# Altium footprint library Supernova Sensors.PcbLib: 18 footprints (part 1 of 2)
Each footprint in its own frame and in the unit in brackets; x right, y up, seen from the top. Pads: shape width x height; smd on the part's side, far side on the other; paste and mask are expansions set on the pad; w line width, h text height; cw(c..) or ccw(c..) is an arc to the next point about the centre after c.
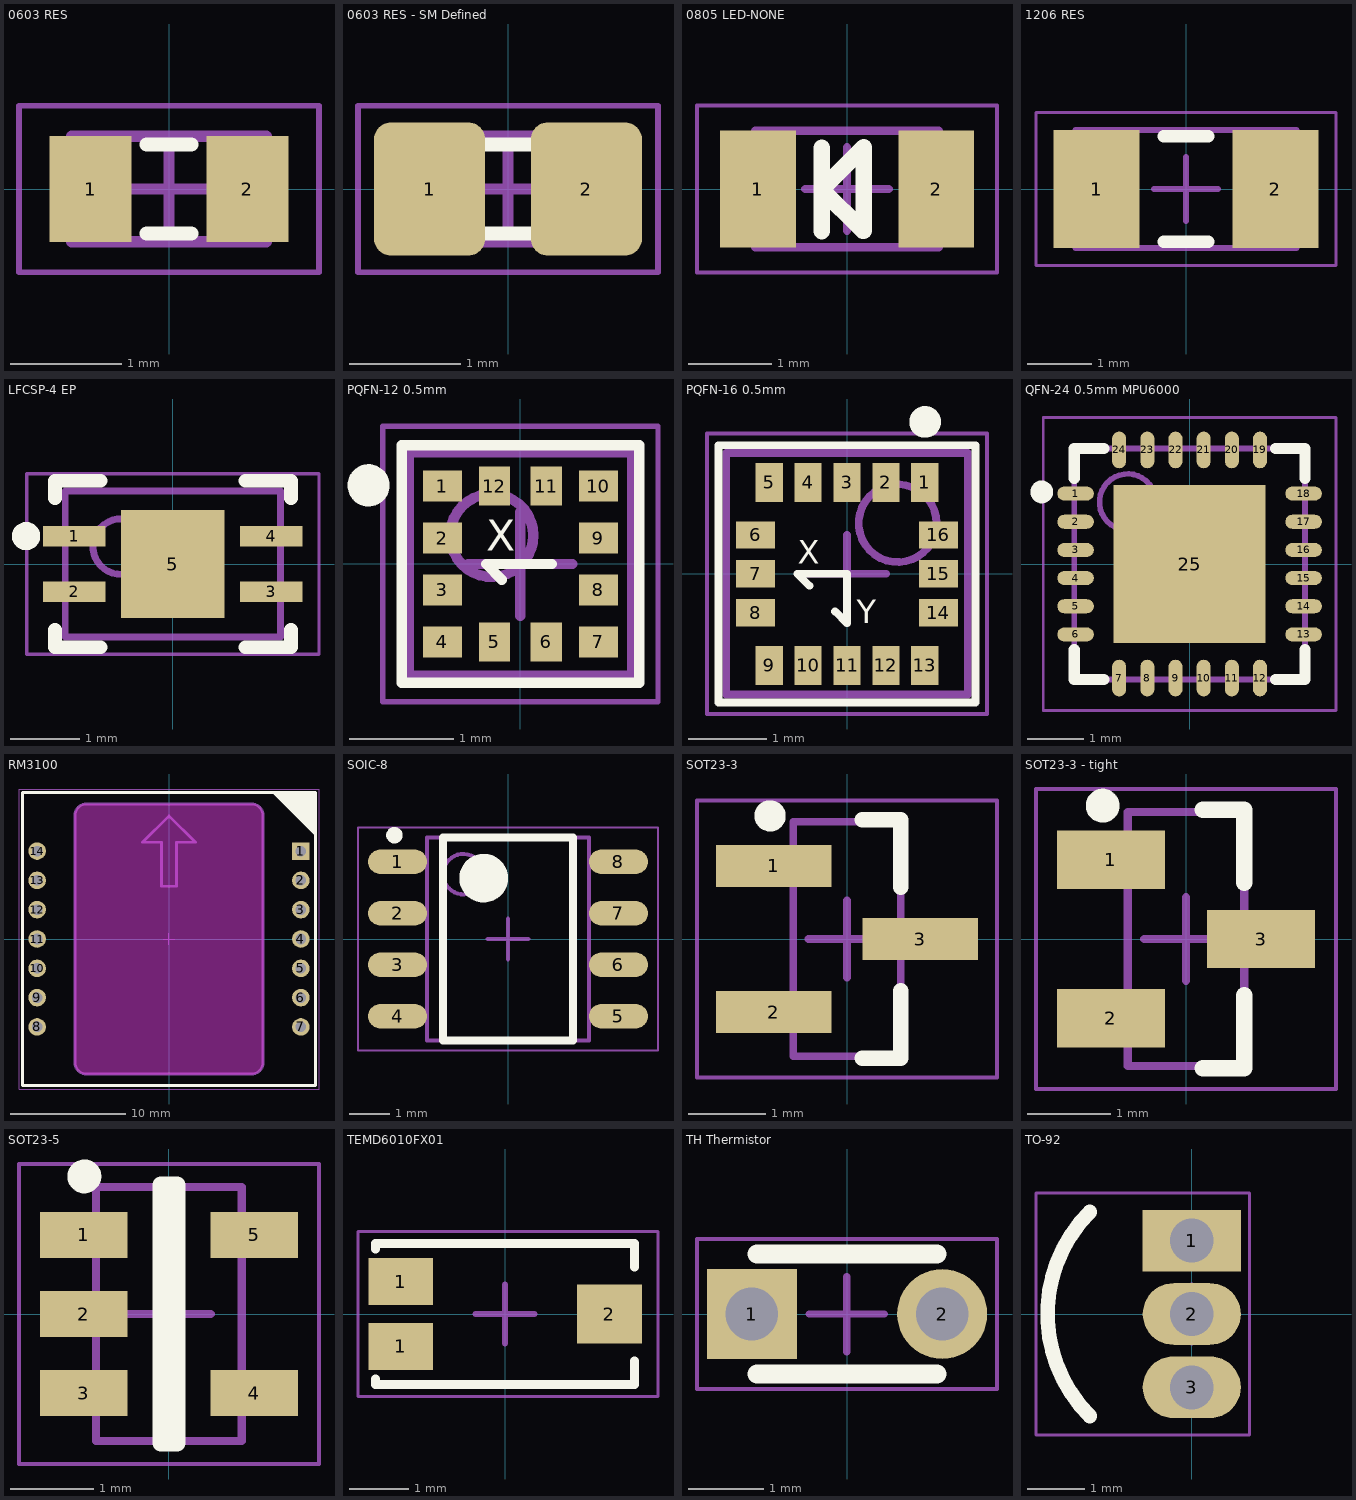
[diagram p0: the footprints below, top view; thin cyan lines are the x and y axes]

## 0603 RES [mm] "Chip Resistor, 2-Leads, Body 1.60x0.85mm, IPC Medium Density"
height 0.55
pads (2):
  rect 0.739x0.95 smd mask+0.051: 1(-0.705,0) 2(0.705,0)
Top Overlay:
  lines w0.127: -0.2,-0.4 0.2,-0.4 ; -0.2,0.4 0.2,0.4
Top 3D Body:
  lines w0.1: -0.875,-0.475 0.875,-0.475 0.875,0.475 -0.875,0.475 -0.875,-0.475
Top Courtyard:
  lines w0.05: -1.35,-0.75 1.35,-0.75 1.35,0.75 -1.35,0.75 -1.35,-0.75
  lines w0.1: -0.475,0 0.475,0 ; 0,-0.475 0,0.475
3D body: height 0.55, standoff 0, extent 0.575,-0.475 0.875,0.475
3D body: height 0.55, standoff 0, extent -0.875,-0.475 -0.575,0.475
3D body: height 0.55, standoff 0, extent -0.575,-0.475 0.575,0.475

## 0603 RES - SM Defined [mm] "Chip Resistor, 2-Leads, Body 1.60x0.85mm, IPC Medium Density"
height 0.55
pads (2):
  rrect30% 1x1.2 smd paste-0.125 mask-0.125: 1(-0.705,0) 2(0.705,0)
Top Overlay:
  lines w0.127: -0.2,-0.4 0.2,-0.4 ; -0.2,0.4 0.2,0.4
Top 3D Body:
  lines w0.1: -0.875,-0.475 -0.875,0.475 0.875,0.475 0.875,-0.475 -0.875,-0.475
Top Courtyard:
  lines w0.05: -1.35,-0.75 -1.35,0.75 1.35,0.75 1.35,-0.75 -1.35,-0.75
  lines w0.1: -0.475,0 0.475,0 ; 0,-0.475 0,0.475
3D body: height 0.55, standoff 0, extent -0.875,-0.475 -0.575,0.475
3D body: height 0.55, standoff 0, extent 0.575,-0.475 0.875,0.475
3D body: height 0.55, standoff 0, extent -0.575,-0.475 0.575,0.475

## 0805 LED-NONE [mm] "Chip LED, 2-Leads, Body 2.05x1.25mm, IPC Medium Density"
height 0.8
pads (2):
  rect 0.91x1.41 smd: 1(-1.07,0) 2(1.07,0)
Top Overlay:
  lines w0.2: -0.304,-0.504 -0.304,0.496 ; 0.192,-0.5 -0.304,-0.004 0.2,0.5 0.2,-0.5
Top 3D Body:
  lines w0.1: -1.1,-0.7 -1.1,0.7 1.1,0.7 1.1,-0.7 -1.1,-0.7
Top Courtyard:
  lines w0.05: -1.8,-1 -1.8,1 1.8,1 1.8,-1 -1.8,-1
  lines w0.1: -0.5,0 0.5,0 ; 0,-0.5 0,0.5
3D body: height 0.3, standoff 0, extent -0.75,-0.7 0.75,0.7
3D body: height 0.8, standoff 0.3, extent -0.75,-0.7 0.75,0.7
3D body: height 0.3, standoff 0, extent -1.1,-0.7 -0.75,0.7
3D body: height 0.3, standoff 0, extent 0.75,-0.7 1.1,0.7

## 1206 RES [mm] "Chip Resistor, 2-Leads, Body 3.20x1.60mm, IPC Medium Density"
height 0.9
pads (2):
  rect 1.35x1.85 smd: 1(-1.4,0) 2(1.4,0)
Top Overlay:
  lines w0.2: -0.35,-0.825 0.35,-0.825 ; -0.35,0.825 0.35,0.825
Top 3D Body:
  lines w0.1: -1.725,-0.925 -1.725,0.925 1.725,0.925 1.725,-0.925 -1.725,-0.925
Top Courtyard:
  lines w0.05: -2.35,-1.2 -2.35,1.2 2.35,1.2 2.35,-1.2 -2.35,-1.2
  lines w0.1: -0.5,0 0.5,0 ; 0,-0.5 0,0.5
3D body: height 0.9, standoff 0, extent -1.225,-0.925 1.225,0.925
3D body: height 0.9, standoff 0, extent -1.725,-0.925 -1.225,0.925
3D body: height 0.9, standoff 0, extent 1.225,-0.925 1.725,0.925

## LFCSP-4 EP [mm] "SON, 4-Leads, Body 2.00x3.00mm, Pitch 0.80mm, Thermal Pad 1.55x1.49mm, IPC Medium Density"
height 0.8
pads (5):
  rect 0.9x0.3 smd mask+0.025: 1(-1.42,0.4) 2(-1.42,-0.4) 3(1.42,-0.4) 4(1.42,0.4)
  rect 1.49x1.55 smd mask+0.025: 5(0,0)
Top Overlay:
  circle w0.203: c-2.115,0.401 r0.102
  lines w0.2: -1.7,-0.95 -1.7,-1.2 -1.045,-1.2 ; -1.7,0.95 -1.7,1.2 -1.045,1.2 ; 1.045,-1.2 1.7,-1.2 1.7,-0.95 ; 1.045,1.2 1.7,1.2 1.7,0.95
Top 3D Body:
  circle w0.1: c-0.75,0.25 r0.4
  lines w0.1: -1.55,-1.05 -1.55,1.05 1.55,1.05 1.55,-1.05 -1.55,-1.05
Top Courtyard:
  lines w0.05: -2.105,-1.3 -2.105,1.3 2.105,1.3 2.105,-1.3 -2.105,-1.3
  lines w0.1: -0.5,0 0.5,0 ; 0,-0.5 0,0.5
3D body: height 0.8, standoff 0, extent -1.55,-1.05 1.55,1.05

## PQFN-12 0.5mm [mm] "PQFN, 12-Leads, Body 2.00x2.00mm, Pitch 0.50mm, IPC Medium Density"
height 1
pads (12):
  rect 0.375x0.3 smd mask+0.025: 1(-0.75,0.75) 2(-0.75,0.25) 3(-0.75,-0.25) 4(-0.75,-0.75) 7(0.75,-0.75) 8(0.75,-0.25) 9(0.75,0.25) 10(0.75,0.75)
  rect 0.3x0.375 smd mask+0.025: 5(-0.25,-0.75) 6(0.25,-0.75) 11(0.25,0.75) 12(-0.25,0.75)
Top Overlay:
  circle w0.203: c-1.461,0.757 r0.102
  lines w0.1: -0.178,-0.152 -0.33,0 0.305,0 ; -1.143,-1.143 -1.143,1.143 1.143,1.143 1.143,-1.143 -1.143,-1.143
  text "X" at -0.33,0.127 h0.3
Top 3D Body:
  circle w0.1: c-0.275,0.275 r0.4
  lines w0.1: -1.075,-1.075 1.075,-1.075 1.075,1.075 -1.075,1.075 -1.075,-1.075
Top Courtyard:
  lines w0.05: -1.325,-1.325 1.325,-1.325 1.325,1.325 -1.325,1.325 -1.325,-1.325
  lines w0.1: -0.5,0 0.5,0 ; 0,-0.5 0,0.5
3D body: height 1, standoff 0, extent -1.075,-1.075 1.075,1.075

## PQFN-16 0.5mm [mm] "PQFN, 16-Leads, Body 3.00x3.00mm, Pitch 0.50mm, IPC Medium Density"
height 0.86
pads (16):
  rect 0.35x0.5 smd mask+0.025: 1(1,1.175) 2(0.5,1.175) 3(0,1.175) 4(-0.5,1.175) 5(-1,1.175) 9(-1,-1.175) 10(-0.5,-1.175) 11(0,-1.175) 12(0.5,-1.175) 13(1,-1.175)
  rect 0.5x0.35 smd mask+0.025: 6(-1.175,0.5) 7(-1.175,0) 8(-1.175,-0.5) 14(1.175,-0.5) 15(1.175,0) 16(1.175,0.5)
Top Overlay:
  circle w0.203: c1.003,1.951 r0.102
  lines w0.1: -0.483,-0.152 -0.635,0 0,0 0,-0.635 -0.152,-0.483 ; -1.651,-1.651 -1.651,1.651 1.651,1.651 1.651,-1.651 -1.651,-1.651
  text "Y" at 0.127,-0.635 h0.3
  text "X" at -0.635,0.127 h0.3
Top 3D Body:
  circle w0.1: c0.65,0.65 r0.5
  lines w0.1: -1.55,-1.55 1.55,-1.55 1.55,1.55 -1.55,1.55 -1.55,-1.55
Top Courtyard:
  lines w0.05: -1.8,-1.8 1.8,-1.8 1.8,1.8 -1.8,1.8 -1.8,-1.8
  lines w0.1: -0.5,0 0.5,0 ; 0,-0.5 0,0.5
3D body: height 0.86, standoff 0, extent -1.55,-1.55 1.55,1.55

## QFN-24 0.5mm MPU6000 [mm] "QFN, 24-Leads, Body 4.1x4.1mm (max), Pitch 0.50mm, IPC Medium Density"
height 0.95
pads (25):
  oval 0.65x0.25 smd mask+0: 1(-2.025,1.25) 2(-2.025,0.75) 3(-2.025,0.25) 4(-2.025,-0.25) 5(-2.025,-0.75) 6(-2.025,-1.25) 13(2.025,-1.25) 14(2.025,-0.75) 15(2.025,-0.25) 16(2.025,0.25) 17(2.025,0.75) 18(2.025,1.25)
  oval 0.25x0.65 smd mask+0: 7(-1.25,-2.025) 8(-0.75,-2.025) 9(-0.25,-2.025) 10(0.25,-2.025) 11(0.75,-2.025) 12(1.25,-2.025) 19(1.25,2.025) 20(0.75,2.025) 21(0.25,2.025) 22(-0.25,2.025) 23(-0.75,2.025) 24(-1.25,2.025)
  rect 2.7x2.8 smd paste-1.4 mask+0: 25(0,0)
Top Overlay:
  circle w0.203: c-2.626,1.28 r0.102
  lines w0.2: -2.05,-1.525 -2.05,-2.05 -1.525,-2.05 ; -2.05,1.525 -2.05,2.05 -1.525,2.05 ; 1.525,-2.05 2.05,-2.05 2.05,-1.525 ; 1.525,2.05 2.05,2.05 2.05,1.525
Top 3D Body:
  circle w0.1: c-1.1,1.1 r0.5
  lines w0.1: -2.05,-2.05 2.05,-2.05 2.05,2.05 -2.05,2.05 -2.05,-2.05
Top Courtyard:
  lines w0.05: -2.6,-2.6 2.6,-2.6 2.6,2.6 -2.6,2.6 -2.6,-2.6
  lines w0.1: -0.5,0 0.5,0 ; 0,-0.5 0,0.5
3D body: height 0.95, standoff 0, extent -2.05,-2.05 2.05,2.05

## RM3100 [mil]
pads (14):
  rect 60x60 hole 36: 1(450,300)
  round 60 hole 36: 2(450,200) 3(450,100) 4(450,0) 5(450,-100) 6(450,-200) 7(450,-300) 8(-450,-300) 9(-450,-200) 10(-450,-100) 11(-450,0) 12(-450,100) 13(-450,200) 14(-450,300)
Top Overlay:
  region: 500,500 350,500 500,350
  lines w10: -500,-500 500,-500 500,500 -500,500 -500,-500
Keep-Out Layer:
  board cut-out: -321.26,-421.26 -321.26,421.26 -321.26,425.14 -319.75,432.74 -316.78,439.91 -312.47,446.36 -306.99,451.84 -300.54,456.15 -293.37,459.12 -285.77,460.63 -281.89,460.63 281.89,460.63 285.77,460.63 293.37,459.12 300.54,456.15 306.99,451.84 312.47,446.36 316.78,439.91 319.75,432.74 321.26,425.14 321.26,421.26 321.26,-421.26 321.26,-425.14 319.75,-432.74 316.78,-439.91 312.47,-446.36 306.99,-451.84 300.54,-456.15 293.37,-459.12 285.77,-460.63 281.89,-460.63 -281.89,-460.63 -285.77,-460.63 -293.37,-459.12 -300.54,-456.15 -306.99,-451.84 -312.47,-446.36 -316.78,-439.91 -319.75,-432.74 -321.26,-425.14
Mechanical 1:
  lines w10: -321.26,-421.26 ccw(c-281.89,-421.26) -281.89,-460.63 281.89,-460.63 ccw(c281.89,-421.26) 321.26,-421.26 321.26,421.26 ccw(c281.89,421.26) 281.89,460.63 -281.89,460.63 ccw(c-281.89,421.26) -321.26,421.26 -321.26,-421.26
  text "CUTOUT" at -111.51,-19.68 h39.37
Mechanical 5:
  lines w10: -90,330 0,420 90,330 25,330 25,180 -25,180 -25,330 -90,330
  text "N" at 15,164 h40
Top Courtyard:
  lines w1.97: -511.81,-511.81 -511.81,511.81 511.81,511.81 511.81,-511.81 -511.81,-511.81
  lines w3.94: -19.69,0 19.68,0 ; 0,-19.69 0,19.68
3D body "Magnetometer, PNI-RM3000 Modified.STEP": height 212, standoff -148, extent -500,-500.01 500,499.99

## SOIC-8 [mm] "SOIC, 8-Leads, Body 4.90x3.90mm, Pitch 1.27mm, IPC Medium Density"
height 1.75
pads (8):
  oval 1.45x0.6 smd: 1(-2.725,1.905) 2(-2.725,0.635) 3(-2.725,-0.635) 4(-2.725,-1.905) 5(2.725,-1.905) 6(2.725,-0.635) 7(2.725,0.635) 8(2.725,1.905)
Top Overlay:
  circle w0.203: c-2.801,2.56 r0.102
  circle w0.6: c-0.6,1.5 r0.3
  lines w0.2: -1.6,-2.5 1.6,-2.5 1.6,2.5 -1.6,2.5 -1.6,-2.5
Top 3D Body:
  circle w0.1: c-1.1,1.6 r0.5
  lines w0.1: -2,-2.5 2,-2.5 2,2.5 -2,2.5 -2,-2.5
Top Courtyard:
  lines w0.05: -3.7,-2.75 3.7,-2.75 3.7,2.75 -3.7,2.75 -3.7,-2.75
  lines w0.1: -0.5,0 0.5,0 ; 0,-0.5 0,0.5
3D body: height 1.75, standoff 0.1, extent -2,-2.5 2,2.5
3D body: height 0.2, standoff 0, extent -3,1.725 3,2.1
3D body: height 0.2, standoff 0, extent -3,0.45 3,0.825
3D body: height 0.2, standoff 0, extent -3,-0.825 3,-0.45
3D body: height 0.2, standoff 0, extent -3,-2.1 3,-1.725

## SOT23-3 [mm] "SOT23, 3-Leads, Body 2.90x2.45mm, Pitch 0.95mm, IPC Medium Density"
height 1.45
pads (3):
  rect 1.5x0.55 smd: 1(-0.95,0.95) 2(-0.95,-0.95) 3(0.95,0)
Top Overlay:
  circle w0.203: c-1,1.6 r0.102
  lines w0.2: 0.2,-1.55 0.7,-1.55 0.7,-0.675 ; 0.2,1.55 0.7,1.55 0.7,0.675
Top 3D Body:
  lines w0.1: -0.7,-1.525 -0.7,1.525 0.7,1.525 0.7,-1.525 -0.7,-1.525
Top Courtyard:
  lines w0.05: -1.95,-1.8 -1.95,1.8 1.95,1.8 1.95,-1.8 -1.95,-1.8
  lines w0.1: -0.5,0 0.5,0 ; 0,-0.5 0,0.5
3D body "SOT23-3.stp": height 1.18, standoff 0, extent -1.418,-1.5 1.418,1.5

## SOT23-3 - tight [mm] "SOT23, 3-Leads, Body 2.90x2.45mm, Pitch 0.95mm, IPC Medium Density"
height 1.45
pads (3):
  rect 1.3x0.7 smd: 1(-0.9,0.95) 2(-0.9,-0.95) 3(0.9,0)
Top Overlay:
  circle w0.203: c-1,1.6 r0.102
  lines w0.2: 0.2,-1.55 0.7,-1.55 0.7,-0.675 ; 0.2,1.55 0.7,1.55 0.7,0.675
Top 3D Body:
  lines w0.1: -0.7,-1.525 -0.7,1.525 0.7,1.525 0.7,-1.525 -0.7,-1.525
Top Courtyard:
  lines w0.05: -1.8,-1.8 -1.8,1.8 1.8,1.8 1.8,-1.8 -1.8,-1.8
  lines w0.1: -0.5,0 0.5,0 ; 0,-0.5 0,0.5
3D body "SOT23-3.stp": height 1.18, standoff 0, extent -1.418,-1.5 1.418,1.5

## SOT23-5 [mm] "SOT23, 5-Leads, Body 2.90x2.45mm, Pitch 0.95mm, IPC Medium Density"
height 1.45
pads (5):
  rect 1.05x0.55 smd: 1(-1.025,0.95) 2(-1.025,0) 3(-1.025,-0.95) 4(1.025,-0.95) 5(1.025,0.95)
Top Overlay:
  circle w0.203: c-1.016,1.651 r0.102
  lines w0.2: -0.1,-1.55 0.1,-1.55 0.1,1.55 -0.1,1.55 -0.1,-1.55
Top 3D Body:
  lines w0.1: -0.875,-1.525 -0.875,1.525 0.875,1.525 0.875,-1.525 -0.875,-1.525
Top Courtyard:
  lines w0.05: -1.8,-1.8 -1.8,1.8 1.8,1.8 1.8,-1.8 -1.8,-1.8
  lines w0.1: -0.5,0 0.5,0 ; 0,-0.5 0,0.5
3D body: height 0.2, standoff 0, extent -1.3,-1.15 1.3,-0.75
3D body: height 0.2, standoff 0, extent -1.3,-0.2 0.1,0.2
3D body: height 0.2, standoff 0, extent -1.3,0.75 1.3,1.15
3D body: height 1.45, standoff 0, extent -0.875,-1.525 0.875,1.525

## TEMD6010FX01 [mm]
height 1.05
pads (3):
  rect 1.1x0.8 smd mask+0.025: 1(-1.775,-0.55) 1(-1.775,0.55)
  rect 1.1x1 smd: 2(1.775,0)
Top Overlay:
  lines w0.15: -2.2,-1.1 -2.2,-1.2 2.2,-1.2 2.2,-0.8 ; -2.2,1.1 -2.2,1.2 2.2,1.2 2.2,0.8
Top Courtyard:
  lines w0.05: -2.5,-1.4 2.6,-1.4 2.6,1.4 -2.5,1.4 -2.5,-1.4
  lines w0.1: -0.5,0 0.5,0 ; 0,-0.5 0,0.5
3D body: height 0.45, standoff 0.4, extent -2,-1 2,1
3D body: height 1.05, standoff 0.45, extent -1.2,-1 1.2,1
3D body: height 0.4, standoff 0, extent -2,-1 2,1

## TH Thermistor [mm]
pads (2):
  rect 1.2x1.2 hole 0.7 paste+0 mask+0: 1(-1.27,0)
  round 1.2 hole 0.7 paste+0 mask+0: 2(1.27,0)
Top Overlay:
  lines w0.254: -1.2,-0.8 1.2,-0.8 ; -1.2,0.8 1.2,0.8
Top Courtyard:
  lines w0.05: -2,-1 -2,1 2,1 2,-1 -2,-1
  lines w0.1: -0.5,0 0.5,0 ; 0,-0.5 0,0.5
3D body "NTCLE213E3.STEP": height 9.3, standoff -3.2, extent -1.47,-1.25 1.47,1.25

## TO-92 [mm]
pads (3):
  rect 1.7x1.07 hole 0.762 mask+0.05: 1(0,1.27)
  oval 1.7x1.07 hole 0.762 mask+0.05: 2(0,0) 3(0,-1.27)
Top Overlay:
  lines w0.254: -1.768,-1.768 cw(c0,0) -1.768,1.768
Top Courtyard:
  lines w0.05: -2.7,-2.1 -2.7,2.1 1,2.1 1,-2.1 -2.7,-2.1
  lines w0.1: -0.5,0 0.5,0 ; 0,-0.5 0,0.5
3D body "LPG0003A.stp": height 5.05, standoff -13.4, extent -0.963,-2 0.557,2